# Altium footprint library CR-1.6mm-11mm.PcbLib: 1 footprints
Each footprint in its own frame and in the unit in brackets; x right, y up, seen from the top. Pads: shape width x height; smd on the part's side, far side on the other; paste and mask are expansions set on the pad; w line width, h text height; cw(c..) or ccw(c..) is an arc to the next point about the centre after c.
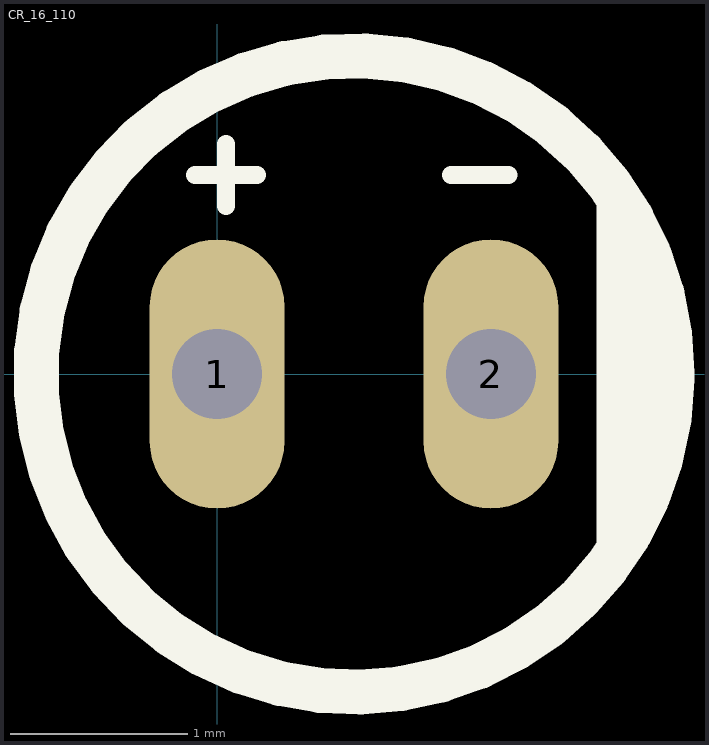
[diagram p0: the footprint, top view; thin cyan lines are the x and y axes]

## CR_16_110 [mil]
pads (2):
  oval 30x60 hole 20: 1(0,0) 2(61.02,0)
Top Overlay:
  lines w4: -4.92,44.29 8.86,44.29 ; 1.97,37.4 1.97,51.18 ; 52.17,44.29 64.96,44.29
  lines w10: 89.57,-37.4 89.57,38.39 ; 94.49,-15.75 94.49,24.61 ; 101.38,-1.01 cw(c30.51,0) 101.38,0